# Altium footprint library Circulators.PcbLib: 11 footprints
Each footprint in its own frame and in the unit in brackets; x right, y up, seen from the top. Pads: shape width x height; smd on the part's side, far side on the other; paste and mask are expansions set on the pad; w line width, h text height; cw(c..) or ccw(c..) is an arc to the next point about the centre after c.
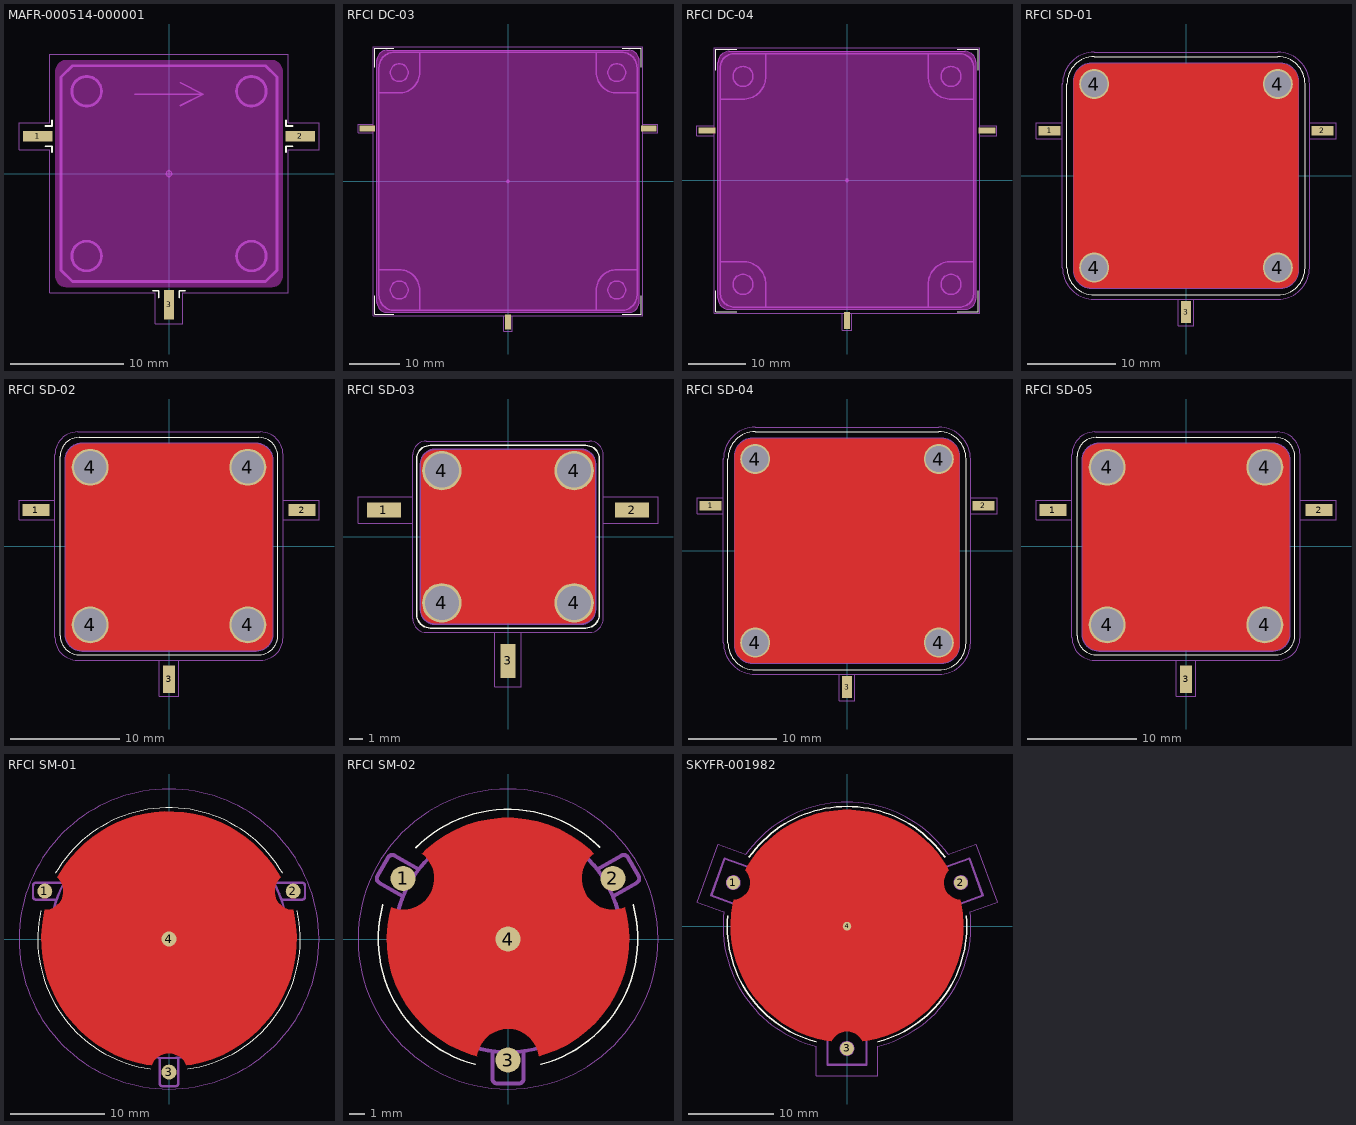
[diagram p0: the footprints below, top view; thin cyan lines are the x and y axes]

## MAFR-000514-000001 [mm] "19X19X7.6 Skyworks Drop-In Circulator"
height 7.6
pads (3):
  rect 2.6x0.9 smd: 1(-11.55,3.3) 2(11.55,3.3)
  rect 0.9x2.6 smd: 3(0,-11.55)
Top Overlay:
  lines w0.15: -10.9,2.4 -10.3,2.4 -10.3,1.9 ; -10.9,4.2 -10.3,4.2 -10.3,4.7 ; -1.4,-10.3 -0.9,-10.3 -0.9,-10.9 ; 0.9,-10.9 0.9,-10.3 1.4,-10.3 ; 10.3,1.9 10.3,2.4 10.9,2.4 ; 10.3,4.7 10.3,4.2 10.9,4.2
Keep-Out Layer:
  board cut-out: -9,10 9,10 9.098,10 9.292,9.962 9.474,9.886 9.637,9.777 9.777,9.637 9.886,9.474 9.962,9.292 10,9.098 10,9 10,-9 10,-9.098 9.962,-9.292 9.886,-9.474 9.777,-9.637 9.637,-9.777 9.474,-9.886 9.292,-9.962 9.098,-10 9,-10 -9,-10 -9.098,-10 -9.292,-9.962 -9.474,-9.886 -9.637,-9.777 -9.777,-9.637 -9.886,-9.474 -9.962,-9.292 -10,-9.098 -10,-9 -10,9 -10,9.098 -9.962,9.292 -9.886,9.474 -9.777,9.637 -9.637,9.777 -9.474,9.886 -9.292,9.962 -9.098,10
Top Assembly:
  circle w0.25: c7.25,7.25 r1.3
  circle w0.25: c7.25,-7.25 r1.3
  circle w0.25: c-7.25,-7.25 r1.3
  circle w0.25: c-7.25,7.25 r1.3
  lines w0.15: -3,7 3,7 ; 1,6 3,7 ; 1,8 3,7
  lines w0.25: -9.498,-8.498 -8.498,-9.498 8.498,-9.498 9.498,-8.498 9.498,8.498 8.498,9.498 -8.498,9.498 -9.498,8.498 -9.498,-8.498
  text ".Designator" at -3.378,-0.339 h1.5
Top Courtyard:
  circle w0.05: c0,0 r0.25
  lines w0.05: -0.35,0 0.35,0 ; 0,-0.35 0,0.35 ; -13.2,2.1 -10.5,2.1 -10.5,-10.5 -1.2,-10.5 -1.2,-13.2 1.2,-13.2 1.2,-10.5 10.5,-10.5 10.5,2.1 13.2,2.1 13.2,4.5 10.5,4.5 10.5,10.5 -10.5,10.5 -10.5,4.5 -13.2,4.5 -13.2,2.1
3D body "MAFR-000514-000001.STEP": height 4.5, standoff -3.1, extent -12,-12 12,9.5

## RFCI DC-03 [mm] "RFCI DC-03 50.8mm Flange Drop-In Package"
height 8.2
pads (3):
  rect 3x1.1 smd paste-1.74: 1(-27.7,10.4) 2(27.7,10.4)
  rect 1.1x3 smd paste-1.74: 3(0,-27.7)
Top Overlay:
  lines w0.1: -26.2,-22.5 -26.2,-26.2 -22.5,-26.2 ; -26.2,22.5 -26.2,26.2 -22.5,26.2 ; 22.5,-26.2 26.2,-26.2 26.2,-22.5 ; 22.5,26.2 26.2,26.2 26.2,22.5
Keep-Out Layer:
  board cut-out: -25.8,-23.8 -25.8,23.8 -25.8,23.997 -25.723,24.383 -25.572,24.747 -25.354,25.075 -25.075,25.354 -24.747,25.572 -24.383,25.723 -23.997,25.8 -23.8,25.8 23.8,25.8 23.997,25.8 24.383,25.723 24.747,25.572 25.075,25.354 25.354,25.075 25.572,24.747 25.723,24.383 25.8,23.997 25.8,23.8 25.8,-23.8 25.8,-23.997 25.723,-24.383 25.572,-24.747 25.354,-25.075 25.075,-25.354 24.747,-25.572 24.383,-25.723 23.997,-25.8 23.8,-25.8 -23.8,-25.8 -23.997,-25.8 -24.383,-25.723 -24.747,-25.572 -25.075,-25.354 -25.354,-25.075 -25.572,-24.747 -25.723,-24.383 -25.8,-23.997
Top Assembly:
  circle w0.25: c21.4,21.4 r1.75
  circle w0.25: c21.4,-21.4 r1.75
  circle w0.25: c-21.4,-21.4 r1.75
  circle w0.25: c-21.4,21.4 r1.75
  lines w0.1: -25.8,-23.8 ccw(c-23.8,-23.8) -23.8,-25.8 23.8,-25.8 ccw(c23.8,-23.8) 25.8,-23.8 25.8,23.8 ccw(c23.8,23.8) 23.8,25.8 -23.8,25.8 ccw(c-23.8,23.8) -25.8,23.8 -25.8,-23.8
  lines w0.25: -25.4,-17.4 -21.4,-17.4 cw(c-21.4,-21.4) -17.4,-21.4 -17.4,-25.4 ; -25.4,17.4 -21.4,17.4 ccw(c-21.4,21.4) -17.4,21.4 -17.4,25.4 ; 17.4,-25.4 17.4,-21.4 cw(c21.4,-21.4) 21.4,-17.4 25.4,-17.4 ; 17.4,25.4 17.4,21.4 ccw(c21.4,21.4) 21.4,17.4 25.4,17.4 ; -25.4,-22.4 ccw(c-22.4,-22.4) -22.4,-25.4 22.4,-25.4 ccw(c22.4,-22.4) 25.4,-22.4 25.4,22.4 ccw(c22.4,22.4) 22.4,25.4 -22.4,25.4 ccw(c-22.4,22.4) -25.4,22.4 -25.4,-22.4
  text ".Designator" at -2.5,-0.4 h1.5
Top Courtyard:
  circle w0.05: c0,0 r0.25
  lines w0.05: -26.5,9.525 -29.525,9.525 -29.525,11.275 -26.5,11.275 ; -0.875,-26.5 -0.875,-29.525 0.875,-29.525 0.875,-26.5 ; -0.35,0 0.35,0 ; 0,-0.35 0,0.35 ; 26.5,9.525 29.525,9.525 29.525,11.275 26.5,11.275 ; -26.5,-26.5 26.5,-26.5 26.5,26.5 -26.5,26.5 -26.5,-26.5
3D body "CIRC DC-03.STEP": height 10.5, standoff -4.5, extent -28.4,-28.4 28.4,25.4

## RFCI DC-04 [mm] "RFCI DC-04 44.5mm Flange Drop-In Package"
height 8.2
pads (3):
  rect 3x1.1 smd paste-1.74: 1(-24.6,8.75) 2(24.6,8.75)
  rect 1.1x3 smd paste-1.74: 3(0,-24.6)
Top Overlay:
  lines w0.1: -23.05,-19.35 -23.05,-23.05 -19.35,-23.05 ; -23.05,19.35 -23.05,23.05 -19.35,23.05 ; 19.35,-23.05 23.05,-23.05 23.05,-19.35 ; 19.35,23.05 23.05,23.05 23.05,19.35
Keep-Out Layer:
  board cut-out: -22.65,-20.65 -22.65,20.65 -22.65,20.847 -22.573,21.233 -22.422,21.597 -22.204,21.925 -21.925,22.204 -21.597,22.422 -21.233,22.573 -20.847,22.65 -20.65,22.65 20.65,22.65 20.847,22.65 21.233,22.573 21.597,22.422 21.925,22.204 22.204,21.925 22.422,21.597 22.573,21.233 22.65,20.847 22.65,20.65 22.65,-20.65 22.65,-20.847 22.573,-21.233 22.422,-21.597 22.204,-21.925 21.925,-22.204 21.597,-22.422 21.233,-22.573 20.847,-22.65 20.65,-22.65 -20.65,-22.65 -20.847,-22.65 -21.233,-22.573 -21.597,-22.422 -21.925,-22.204 -22.204,-21.925 -22.422,-21.597 -22.573,-21.233 -22.65,-20.847
Top Assembly:
  circle w0.25: c-18.25,18.25 r1.75
  circle w0.25: c-18.25,-18.25 r1.75
  circle w0.25: c18.25,-18.25 r1.75
  circle w0.25: c18.25,18.25 r1.75
  lines w0.1: -22.65,-20.65 ccw(c-20.65,-20.65) -20.65,-22.65 20.65,-22.65 ccw(c20.65,-20.65) 22.65,-20.65 22.65,20.65 ccw(c20.65,20.65) 20.65,22.65 -20.65,22.65 ccw(c-20.65,20.65) -22.65,20.65 -22.65,-20.65
  lines w0.25: -22.25,-14.25 -18.25,-14.25 cw(c-18.25,-18.25) -14.25,-18.25 -14.25,-22.25 ; -22.25,14.25 -18.25,14.25 ccw(c-18.25,18.25) -14.25,18.25 -14.25,22.25 ; 14.25,-22.25 14.25,-18.25 cw(c18.25,-18.25) 18.25,-14.25 22.25,-14.25 ; 14.25,22.25 14.25,18.25 ccw(c18.25,18.25) 18.25,14.25 22.25,14.25 ; -22.25,-19.75 ccw(c-19.75,-19.75) -19.75,-22.25 19.75,-22.25 ccw(c19.75,-19.75) 22.25,-19.75 22.25,19.75 ccw(c19.75,19.75) 19.75,22.25 -19.75,22.25 ccw(c-19.75,19.75) -22.25,19.75 -22.25,-19.75
  text ".Designator" at -2.8,-0.3 h1.5
Top Courtyard:
  circle w0.05: c0,0 r0.25
  lines w0.05: -23.3,7.875 -26.325,7.875 -26.325,9.625 -23.3,9.625 ; -0.875,-23.3 -0.875,-26.325 0.875,-26.325 0.875,-23.3 ; -0.35,0 0.35,0 ; 0,-0.35 0,0.35 ; 23.3,7.875 26.325,7.875 26.325,9.625 23.3,9.625 ; -23.3,-23.3 23.3,-23.3 23.3,23.3 -23.3,23.3 -23.3,-23.3
3D body "CIRC DC-04.STEP": height 8.2, standoff -4.5, extent -25.25,-25.25 25.25,22.25

## RFCI SD-01 [mm] "RFCI SD-01 25.4mm Thread Package"
height 9
pads (7):
  rect 2.5x1.1 smd paste-1.74: 1(-15.45,5.1) 2(15.45,5.1)
  rect 1.1x2.5 smd paste-1.74: 3(0,-15.45)
  round 3.4 hole 3 paste-2539.97: 4(-10.4,-10.4) 4(-10.4,10.4) 4(10.4,-10.4) 4(10.4,10.4)
Top Layer:
  region: -10.7,-12.7 -10.897,-12.7 -11.283,-12.623 -11.647,-12.472 -11.975,-12.254 -12.254,-11.975 -12.472,-11.647 -12.623,-11.283 -12.7,-10.897 -12.7,-10.7 -12.7,10.7 -12.7,10.897 -12.623,11.283 -12.472,11.647 -12.254,11.975 -11.975,12.254 -11.647,12.472 -11.283,12.623 -10.897,12.7 -10.7,12.7 10.7,12.7 10.897,12.7 11.283,12.623 11.647,12.472 11.975,12.254 12.254,11.975 12.472,11.647 12.623,11.283 12.7,10.897 12.7,10.7 12.7,-10.7 12.7,-10.897 12.623,-11.283 12.472,-11.647 12.254,-11.975 11.975,-12.254 11.647,-12.472 11.283,-12.623 10.897,-12.7 10.7,-12.7
Top Overlay:
  lines w0.1: 13.5,10.4 ccw(c10.4,10.4) 10.4,13.5 -10.4,13.5 ccw(c-10.4,10.4) -13.5,10.4 -13.5,-10.4 ccw(c-10.4,-10.4) -10.4,-13.5 10.4,-13.5 ccw(c10.4,-10.4) 13.5,-10.4 13.5,10.5
Top Assembly:
  circle w0.25: c10.4,-10.4 r1.5
  circle w0.25: c-10.4,-10.4 r1.5
  circle w0.25: c-10.4,10.4 r1.5
  circle w0.25: c10.4,10.4 r1.5
  lines w0.25: -12.7,-10.7 ccw(c-10.7,-10.7) -10.7,-12.7 10.7,-12.7 ccw(c10.7,-10.7) 12.7,-10.7 12.7,10.7 ccw(c10.7,10.7) 10.7,12.7 -10.7,12.7 ccw(c-10.7,10.7) -12.7,10.7 -12.7,-10.7
  text ".Designator" at -2.8,-0.2 h1.5
Top Courtyard:
  circle w0.05: c0,0 r0.25
  lines w0.05: -14,4.2 -17,4.2 -17,6 -14,6 ; -0.9,-14 -0.9,-17 0.9,-17 0.9,-14 ; -0.35,0 0.35,0 ; 0,-0.35 0,0.35 ; 14,4.2 17,4.2 17,6 14,6 ; -14,-10.4 ccw(c-10.4,-10.4) -10.4,-14 10.4,-14 ccw(c10.4,-10.4) 14,-10.4 14,10.4 ccw(c10.4,10.4) 10.4,14 -10.4,14 ccw(c-10.4,10.4) -14,10.4 -14,-10.4
3D body "CIRC SD-01.STEP": height 9, standoff 0, extent -15.7,-15.7 15.7,12.7

## RFCI SD-02 [mm] "RFCI SD-02 19mm Thread Package"
height 8
pads (7):
  rect 2.5x1.1 smd paste-1.74: 1(-12.25,3.3) 2(12.25,3.3)
  rect 1.1x2.5 smd paste-1.74: 3(0,-12.25)
  round 3.4 hole 3 paste-2539.97: 4(-7.25,-7.25) 4(-7.25,7.25) 4(7.25,-7.25) 4(7.25,7.25)
Top Layer:
  region: -9.5,-8.1 -9.5,7.9 -9.5,8.048 -9.442,8.338 -9.329,8.611 -9.165,8.856 -8.956,9.065 -8.711,9.229 -8.438,9.342 -8.148,9.4 -8,9.4 8,9.4 8.148,9.4 8.438,9.342 8.71,9.229 8.956,9.065 9.165,8.856 9.329,8.611 9.442,8.338 9.5,8.048 9.5,7.9 9.5,-8.1 9.5,-8.248 9.442,-8.537 9.329,-8.81 9.165,-9.056 8.956,-9.265 8.711,-9.429 8.438,-9.542 8.148,-9.6 8,-9.6 -8,-9.6 -8.148,-9.6 -8.438,-9.542 -8.71,-9.429 -8.956,-9.265 -9.165,-9.056 -9.329,-8.81 -9.442,-8.538 -9.5,-8.248
Top Overlay:
  lines w0.1: -10,-8.25 ccw(c-8.25,-8.25) -8.25,-10 8.25,-10 ccw(c8.25,-8.25) 10,-8.25 10,8.25 ccw(c8.25,8.25) 8.25,10 -8.25,10 ccw(c-8.25,8.25) -10,8.25 -10,-8.25
Top Assembly:
  circle w0.25: c-7.25,-7.25 r1.5
  circle w0.25: c-7.25,7.25 r1.5
  circle w0.25: c7.25,-7.25 r1.5
  circle w0.25: c7.25,7.25 r1.5
  lines w0.25: -9.5,-8.1 ccw(c-8,-8.1) -8,-9.6 8,-9.6 ccw(c8,-8.1) 9.5,-8.1 9.5,7.9 ccw(c8,7.9) 8,9.4 -8,9.4 ccw(c-8,7.9) -9.5,7.9 -9.5,-8.1
  text ".Designator" at -2.9,-0.3 h1.5
Top Courtyard:
  circle w0.05: c0,0 r0.25
  lines w0.05: -10.5,2.4 -13.8,2.4 -13.8,4.2 -10.5,4.2 ; -0.9,-10.5 -0.9,-13.8 0.9,-13.8 0.9,-10.5 ; -0.35,0 0.35,0 ; 0,-0.35 0,0.35 ; 10.5,2.4 13.8,2.4 13.8,4.2 10.5,4.2 ; -10.5,-8.4 ccw(c-8.4,-8.4) -8.4,-10.5 8.4,-10.5 ccw(c8.4,-8.4) 10.5,-8.4 10.5,8.4 ccw(c8.4,8.4) 8.4,10.5 -8.4,10.5 ccw(c-8.4,8.4) -10.5,8.4 -10.5,-8.4
3D body "CIRC SD-02.STEP": height 8, standoff 0, extent -12.5,-12.5 12.5,9.5

## RFCI SD-03 [mm] "RFCI SD-03 12.7mm Thread Package"
height 8.5
pads (7):
  rect 2.5x1.1 smd paste-1.74: 1(-9.1,1.95) 2(9.1,1.95)
  rect 1.1x2.5 smd paste-1.74: 3(0,-9.1)
  round 2.9 hole 2.5 paste-2539.97: 4(-4.85,-4.85) 4(-4.85,4.85) 4(4.85,-4.85) 4(4.85,4.85)
Top Layer:
  region: -6.35,-5.35 -6.35,5.35 -6.35,5.448 -6.312,5.642 -6.236,5.824 -6.127,5.987 -5.987,6.127 -5.824,6.236 -5.642,6.312 -5.448,6.35 -5.35,6.35 5.35,6.35 5.448,6.35 5.642,6.312 5.824,6.236 5.987,6.127 6.127,5.987 6.236,5.824 6.312,5.642 6.35,5.448 6.35,5.35 6.35,-5.35 6.35,-5.448 6.312,-5.642 6.236,-5.824 6.127,-5.987 5.987,-6.127 5.824,-6.236 5.642,-6.312 5.448,-6.35 5.35,-6.35 -5.35,-6.35 -5.448,-6.35 -5.642,-6.312 -5.824,-6.236 -5.987,-6.127 -6.127,-5.987 -6.236,-5.824 -6.312,-5.642 -6.35,-5.448
Top Overlay:
  lines w0.1: -6.7,-5.7 ccw(c-5.7,-5.7) -5.7,-6.7 5.7,-6.7 ccw(c5.7,-5.7) 6.7,-5.7 6.7,5.7 ccw(c5.7,5.7) 5.7,6.7 -5.7,6.7 ccw(c-5.7,5.7) -6.7,5.7 -6.7,-5.7
Top Assembly:
  circle w0.25: c4.85,4.85 r1
  circle w0.25: c-4.85,4.85 r1
  circle w0.25: c-4.85,-4.85 r1
  circle w0.25: c4.85,-4.85 r1
  lines w0.25: -6.35,-5.35 ccw(c-5.35,-5.35) -5.35,-6.35 5.35,-6.35 ccw(c5.35,-5.35) 6.35,-5.35 6.35,5.35 ccw(c5.35,5.35) 5.35,6.35 -5.35,6.35 ccw(c-5.35,5.35) -6.35,5.35 -6.35,-5.35
  text ".Designator" at -2.9,-0.3 h1.5
Top Courtyard:
  circle w0.05: c0,0 r0.25
  lines w0.05: -7,0.975 -11,0.975 -11,2.925 -7,2.925 ; -0.975,-7 -0.975,-11 0.975,-11 0.975,-7 ; -0.35,0 0.35,0 ; 0,-0.35 0,0.35 ; 7,0.975 11,0.975 11,2.925 7,2.925 ; -7,-6 ccw(c-6,-6) -6,-7 6,-7 ccw(c6,-6) 7,-6 7,6 ccw(c6,6) 6,7 -6,7 ccw(c-6,6) -7,6 -7,-6
3D body "CIRC SD-03.STEP": height 8.5, standoff 0, extent -9.35,-9.35 9.35,6.35

## RFCI SD-04 [mm] "RFCI SD-04 25.4mm GW-C' Bore Thru Holes Package"
height 9
pads (7):
  rect 2.5x1.1 smd paste-1.74: 1(-15.45,5.1) 2(15.45,5.1)
  rect 1.1x2.5 smd paste-1.74: 3(0,-15.45)
  round 3.4 hole 3 paste-2539.97: 4(-10.4,-10.4) 4(-10.4,10.4) 4(10.4,-10.4) 4(10.4,10.4)
Top Layer:
  region: -10.7,-12.7 -10.897,-12.7 -11.283,-12.623 -11.647,-12.472 -11.975,-12.254 -12.254,-11.975 -12.472,-11.647 -12.623,-11.283 -12.7,-10.897 -12.7,-10.7 -12.7,10.7 -12.7,10.897 -12.623,11.283 -12.472,11.647 -12.254,11.975 -11.975,12.254 -11.647,12.472 -11.283,12.623 -10.897,12.7 -10.7,12.7 10.7,12.7 10.897,12.7 11.283,12.623 11.647,12.472 11.975,12.254 12.254,11.975 12.472,11.647 12.623,11.283 12.7,10.897 12.7,10.7 12.7,-10.7 12.7,-10.897 12.623,-11.283 12.472,-11.647 12.254,-11.975 11.975,-12.254 11.647,-12.472 11.283,-12.623 10.897,-12.7 10.7,-12.7
Top Overlay:
  lines w0.1: 13.5,10.4 ccw(c10.4,10.4) 10.4,13.5 -10.4,13.5 ccw(c-10.4,10.4) -13.5,10.4 -13.5,-10.4 ccw(c-10.4,-10.4) -10.4,-13.5 10.4,-13.5 ccw(c10.4,-10.4) 13.5,-10.4 13.5,10.5
Top Assembly:
  circle w0.25: c10.4,10.4 r1.5
  circle w0.25: c-10.4,10.4 r1.5
  circle w0.25: c-10.4,-10.4 r1.5
  circle w0.25: c10.4,-10.4 r1.5
  lines w0.25: -12.7,-7.7 -10.4,-7.7 cw(c-10.4,-10.4) -7.7,-10.4 -7.7,-12.7 ; -12.7,7.7 -10.4,7.7 ccw(c-10.4,10.4) -7.7,10.4 -7.7,12.7 ; 7.7,-12.7 7.7,-10.4 cw(c10.4,-10.4) 10.4,-7.7 12.7,-7.7 ; 7.7,12.7 7.7,10.4 ccw(c10.4,10.4) 10.4,7.7 12.7,7.7 ; -12.7,-10.7 ccw(c-10.7,-10.7) -10.7,-12.7 10.7,-12.7 ccw(c10.7,-10.7) 12.7,-10.7 12.7,10.7 ccw(c10.7,10.7) 10.7,12.7 -10.7,12.7 ccw(c-10.7,10.7) -12.7,10.7 -12.7,-10.7
  text ".Designator" at -3.1,-0.4 h1.5
Top Courtyard:
  lines w0.05: -14,4.2 -17,4.2 -17,6 -14,6 ; -0.9,-14 -0.9,-17 0.9,-17 0.9,-14 ; 14,4.2 17,4.2 17,6 14,6 ; -14,-10.4 ccw(c-10.4,-10.4) -10.4,-14 10.4,-14 ccw(c10.4,-10.4) 14,-10.4 14,10.4 ccw(c10.4,10.4) 10.4,14 -10.4,14 ccw(c-10.4,10.4) -14,10.4 -14,-10.4
3D body "CIRC SD-04.STEP": height 9, standoff 0, extent -15.7,-15.7 15.7,12.7

## RFCI SD-05 [mm] "RFCI SD-05 19mm GW-C' Bore Thru Holes Package"
height 6.5
pads (7):
  rect 2.5x1.1 smd paste-1.74: 1(-12.25,3.3) 2(12.25,3.3)
  rect 1.1x2.5 smd paste-1.74: 3(0,-12.25)
  round 3.4 hole 3 paste-2539.97: 4(-7.25,-7.25) 4(-7.25,7.25) 4(7.25,-7.25) 4(7.25,7.25)
Top Layer:
  region: -9.5,-8.1 -9.5,7.9 -9.5,8.048 -9.442,8.338 -9.329,8.611 -9.165,8.856 -8.956,9.065 -8.711,9.229 -8.438,9.342 -8.148,9.4 -8,9.4 8,9.4 8.148,9.4 8.438,9.342 8.71,9.229 8.956,9.065 9.165,8.856 9.329,8.611 9.442,8.338 9.5,8.048 9.5,7.9 9.5,-8.1 9.5,-8.248 9.442,-8.537 9.329,-8.81 9.165,-9.056 8.956,-9.265 8.711,-9.429 8.438,-9.542 8.148,-9.6 8,-9.6 -8,-9.6 -8.148,-9.6 -8.438,-9.542 -8.71,-9.429 -8.956,-9.265 -9.165,-9.056 -9.329,-8.81 -9.442,-8.538 -9.5,-8.248
Top Overlay:
  lines w0.1: -10,-8.25 ccw(c-8.25,-8.25) -8.25,-10 8.25,-10 ccw(c8.25,-8.25) 10,-8.25 10,8.25 ccw(c8.25,8.25) 8.25,10 -8.25,10 ccw(c-8.25,8.25) -10,8.25 -10,-8.25
Top Assembly:
  circle w0.25: c7.25,7.25 r1.5
  circle w0.25: c7.25,-7.25 r1.5
  circle w0.25: c-7.25,7.25 r1.5
  circle w0.25: c-7.25,-7.25 r1.5
  lines w0.25: -9.5,-8.1 ccw(c-8,-8.1) -8,-9.6 8,-9.6 ccw(c8,-8.1) 9.5,-8.1 9.5,7.9 ccw(c8,7.9) 8,9.4 -8,9.4 ccw(c-8,7.9) -9.5,7.9 -9.5,-8.1
  text ".Designator" at -2.9,-0.3 h1.5
Top Courtyard:
  circle w0.05: c0,0 r0.25
  lines w0.05: -10.5,2.4 -13.8,2.4 -13.8,4.2 -10.5,4.2 ; -0.9,-10.5 -0.9,-13.8 0.9,-13.8 0.9,-10.5 ; -0.35,0 0.35,0 ; 0,-0.35 0,0.35 ; 10.5,2.4 13.8,2.4 13.8,4.2 10.5,4.2 ; -10.5,-8.4 ccw(c-8.4,-8.4) -8.4,-10.5 8.4,-10.5 ccw(c8.4,-8.4) 10.5,-8.4 10.5,8.4 ccw(c8.4,8.4) 8.4,10.5 -8.4,10.5 ccw(c-8.4,8.4) -10.5,8.4 -10.5,-8.4
3D body "CIRC SD-05.STEP": height 6.5, standoff 0, extent -12.5,-12.5 12.5,9.5

## RFCI SM-01 [mm] "RFCI SM-01 25.4mm Diameter Package"
height 8.5
pads (4):
  round 1.6 smd paste-1.74: 1(-13.25,5.1) 2(13.25,5.1) 3(0,-14.2) 4(0,0)
Top Layer:
  region: -1.863,-13.472 -2.424,-13.394 -3.528,-13.147 -4.608,-12.808 -5.656,-12.381 -6.665,-11.868 -7.628,-11.274 -8.538,-10.601 -9.389,-9.855 -10.176,-9.041 -10.891,-8.164 -11.532,-7.231 -12.093,-6.248 -12.57,-5.222 -12.96,-4.16 -13.261,-3.069 -13.47,-1.957 -13.586,-0.831 -13.608,0.301 -13.536,1.43 -13.371,2.549 -13.242,3.1 -13.24,3.1 -13.041,3.111 -12.65,3.192 -12.283,3.349 -11.955,3.576 -11.678,3.864 -11.464,4.2 -11.321,4.573 -11.254,4.966 -11.268,5.365 -11.36,5.753 -11.527,6.115 -11.763,6.437 -11.904,6.579 -11.902,6.581 -11.651,7.035 -11.082,7.9 -10.449,8.72 -9.755,9.49 -9.005,10.204 -8.203,10.86 -7.353,11.452 -6.461,11.979 -5.531,12.435 -4.569,12.82 -3.581,13.13 -2.572,13.365 -1.548,13.522 -0.515,13.6 0.521,13.6 1.554,13.521 2.578,13.363 3.587,13.129 4.575,12.818 5.537,12.433 6.467,11.975 7.359,11.449 8.208,10.856 9.01,10.2 9.76,9.485 10.453,8.715 11.086,7.895 11.654,7.029 11.905,6.576 11.903,6.578 11.762,6.436 11.526,6.114 11.359,5.752 11.267,5.364 11.255,4.965 11.321,4.572 11.464,4.2 11.678,3.863 11.955,3.576 12.283,3.349 12.65,3.192 13.041,3.111 13.24,3.1 13.242,3.1 13.371,2.549 13.536,1.43 13.608,0.3 13.586,-0.831 13.47,-1.957 13.261,-3.07 12.96,-4.161 12.57,-5.223 12.092,-6.249 11.531,-7.233 10.891,-8.166 10.174,-9.042 9.388,-9.856 8.537,-10.602 7.626,-11.275 6.663,-11.869 5.654,-12.382 4.606,-12.809 3.526,-13.147 2.421,-13.395 1.861,-13.472 1.86,-13.464 1.777,-13.282 1.56,-12.948 1.281,-12.664 0.951,-12.441 0.584,-12.287 0.193,-12.209 -0.205,-12.211 -0.595,-12.291 -0.962,-12.446 -1.29,-12.672 -1.567,-12.957 -1.782,-13.293 -1.864,-13.475
Top Overlay:
  lines w0.1: -13.676,2.995 ccw(c0,0) -2.022,-13.853 ; -12.118,7.011 cw(c0,0) 12.118,7.011 ; 2.022,-13.853 ccw(c0,0) 13.676,2.995
Top Assembly:
  circle w0.25: c0,0 r12.7
  lines w0.25: -12,4.2 -14.2,4.2 cw(c-14.2,4.5) -14.5,4.5 -14.5,5.7 cw(c-14.2,5.7) -14.2,6 -11.2,6 ; -1,-12.7 -1,-15.4 ccw(c-0.7,-15.4) -0.7,-15.7 0.7,-15.7 ccw(c0.7,-15.4) 1,-15.4 1,-12.7 ; 11.2,6 14.2,6 cw(c14.2,5.7) 14.5,5.7 14.5,4.5 cw(c14.2,4.5) 14.2,4.2 12,4.2
  text ".Designator" at -2.7,-0.2 h1.5
Top Courtyard:
  circle w0.05: c0,0 r16
  circle w0.05: c0,0 r0.25
  lines w0.05: -0.35,0 0.35,0 ; 0,-0.35 0,0.35
3D body "CIRC SM-01.STEP": height 8.5, standoff 0, extent -14.5,-15.7 14.5,12.7

## RFCI SM-02 [mm] "RFCI SM-02 14.5mm Diameter Package"
height 7
pads (4):
  round 1.6 smd paste-1.74: 1(-6.712,3.875) 2(6.712,3.875) 3(0,-7.75) 4(0,0)
Top Layer:
  region: -1.982,-7.492 -2.351,-7.395 -3.067,-7.128 -3.753,-6.791 -4.403,-6.389 -5.01,-5.925 -5.568,-5.404 -6.073,-4.83 -6.518,-4.21 -6.901,-3.548 -7.216,-2.853 -7.462,-2.129 -7.635,-1.385 -7.734,-0.627 -7.758,0.136 -7.707,0.898 -7.582,1.652 -7.482,2.021 -7.457,2.019 -7.287,1.96 -6.936,1.888 -6.577,1.88 -6.222,1.936 -5.883,2.055 -5.571,2.232 -5.296,2.462 -5.066,2.738 -4.89,3.05 -4.772,3.389 -4.716,3.744 -4.725,4.103 -4.797,4.454 -4.932,4.787 -5.124,5.091 -5.366,5.355 -5.505,5.47 -5.497,5.463 -5.228,5.734 -4.639,6.22 -4.005,6.646 -3.332,7.008 -2.627,7.301 -1.896,7.524 -1.147,7.674 -0.387,7.75 0.377,7.75 1.138,7.676 1.887,7.526 2.618,7.304 3.324,7.012 3.997,6.651 4.632,6.225 5.221,5.74 5.491,5.469 5.477,5.448 5.341,5.331 5.102,5.063 4.916,4.756 4.788,4.421 4.721,4.068 4.719,3.709 4.78,3.355 4.904,3.019 5.087,2.709 5.321,2.438 5.6,2.212 5.915,2.04 6.256,1.928 6.612,1.877 6.97,1.892 7.321,1.97 7.489,2.032 7.479,2.03 7.58,1.661 7.706,0.908 7.758,0.145 7.735,-0.618 7.636,-1.376 7.464,-2.12 7.219,-2.844 6.905,-3.54 6.523,-4.202 6.078,-4.823 5.575,-5.397 5.017,-5.919 4.41,-6.384 3.761,-6.787 3.076,-7.124 2.36,-7.392 1.991,-7.49 1.98,-7.467 1.947,-7.291 1.833,-6.95 1.661,-6.635 1.435,-6.356 1.162,-6.123 0.853,-5.941 0.516,-5.818 0.162,-5.757 -0.197,-5.76 -0.549,-5.827 -0.884,-5.956 -1.191,-6.143 -1.459,-6.382 -1.68,-6.665 -1.847,-6.982 -1.954,-7.325 -1.985,-7.502
Top Overlay:
  lines w0.1: -8.003,2.201 ccw(c0,0) -2.107,-8.028 ; -5.899,5.839 cw(c0,0) 5.869,5.869 ; 2.107,-8.028 ccw(c0,0) 8.003,2.201
Top Assembly:
  circle w0.25: c0,0 r7.25
  lines w0.25: -6.735,2.734 -8.251,3.609 cw(c-8.101,3.869) -8.361,4.019 -7.661,5.231 cw(c-7.401,5.081) -7.251,5.341 -5.735,4.466 ; -1,-7.2 -1,-8.95 ccw(c-0.7,-8.95) -0.7,-9.25 0.7,-9.25 ccw(c0.7,-8.95) 1,-8.95 1,-7.2 ; 5.735,4.466 7.251,5.341 cw(c7.401,5.081) 7.661,5.231 8.361,4.019 cw(c8.101,3.869) 8.251,3.609 6.735,2.734
  text ".Designator" at -2.8,-0.4 h1.5
Top Courtyard:
  circle w0.05: c0,0 r0.25
  circle w0.05: c0,0 r9.601
  lines w0.05: -0.35,0 0.35,0 ; 0,-0.35 0,0.35
3D body "CIRC SM-02.STEP": height 7, standoff 0, extent -8.58,-9.169 8.58,7.25

## SKYFR-001982 [mm] "SKYFR-001982 Circulator"
height 10.5
pads (4):
  round 1.6 smd: 1(-13.3,5.1) 2(13.3,5.1) 3(0,-14.3)
  round 1 smd paste-0.5 mask-0.5: 4(0,0)
Top Layer:
  region: -1.823,-13.477 -2.385,-13.401 -3.492,-13.156 -4.575,-12.82 -5.626,-12.395 -6.638,-11.884 -7.604,-11.29 -8.517,-10.618 -9.371,-9.873 -10.16,-9.058 -10.879,-8.181 -11.522,-7.248 -12.085,-6.264 -12.564,-5.236 -12.957,-4.172 -13.259,-3.08 -13.469,-1.966 -13.586,-0.838 -13.609,0.296 -13.537,1.427 -13.371,2.549 -13.242,3.101 -13.047,3.116 -12.665,3.203 -12.308,3.363 -11.989,3.59 -11.72,3.874 -11.512,4.205 -11.372,4.57 -11.305,4.956 -11.315,5.347 -11.401,5.728 -11.56,6.086 -11.785,6.406 -11.92,6.548 -11.67,7.003 -11.102,7.872 -10.47,8.696 -9.776,9.469 -9.026,10.187 -8.223,10.845 -7.372,11.44 -6.478,11.969 -5.547,12.428 -4.583,12.815 -3.592,13.127 -2.581,13.363 -1.555,13.521 -0.519,13.6 0.519,13.6 1.555,13.521 2.581,13.363 3.592,13.127 4.583,12.815 5.547,12.428 6.478,11.969 7.372,11.44 8.223,10.845 9.026,10.187 9.776,9.469 10.47,8.696 11.102,7.872 11.67,7.003 11.92,6.548 11.785,6.406 11.56,6.086 11.401,5.728 11.315,5.347 11.305,4.956 11.372,4.57 11.512,4.205 11.72,3.874 11.989,3.59 12.308,3.363 12.665,3.203 13.047,3.116 13.242,3.101 13.371,2.549 13.537,1.427 13.609,0.296 13.586,-0.838 13.469,-1.966 13.259,-3.08 12.957,-4.172 12.564,-5.236 12.085,-6.264 11.522,-7.248 10.879,-8.181 10.16,-9.058 9.371,-9.873 8.517,-10.618 7.604,-11.29 6.638,-11.884 5.626,-12.395 4.575,-12.82 3.492,-13.156 2.385,-13.401 1.823,-13.477 1.736,-13.307 1.516,-12.995 1.24,-12.731 0.92,-12.524 0.566,-12.382 0.191,-12.309 -0.191,-12.309 -0.566,-12.382 -0.92,-12.524 -1.24,-12.731 -1.516,-12.995 -1.736,-13.307
Top Overlay:
  lines w0.15: -13.947,1.22 ccw(c0,0) -3.623,-13.523 ; -11.468,8.03 cw(c0,0) 11.468,8.03 ; 3.623,-13.523 ccw(c0,0) 13.947,1.22
Top Paste:
  drawing of 14 lines, arcs and shapes, not listed
Top Solder:
  drawing of 14 lines, arcs and shapes, not listed
Top Assembly:
  circle w0.25: c0,-14.3 r0.75
  circle w0.25: c13.3,5.1 r0.75
  circle w0.25: c-13.3,5.1 r0.75
  circle w0.25: c0,0 r11.75
  lines w0.25: -11.571,2.023 -15.872,3.589 -14.299,7.911 -9.904,6.311 ; -5,5 5,5 ; -2.3,-11.523 -2.3,-16.2 2.3,-16.2 2.3,-11.522 ; 3,4 5,5 ; 3,6 5,5 ; 9.904,6.311 14.299,7.911 15.872,3.589 11.571,2.023
  text ".Designator" at -4,-0.718 h1.5
Top Courtyard:
  circle w0.05: c0,0 r0.25
  lines w0.05: -0.35,0 0.35,0 ; 0,-0.35 0,0.35 ; -17.538,2.812 -14.404,1.671 ccw(c0,0) -3.6,-14.046 -3.6,-17.5 3.6,-17.5 3.6,-14.046 ccw(c0,0) 14.403,1.671 17.538,2.812 15.076,9.577 11.823,8.394 ccw(c0,0) -11.824,8.394 -15.076,9.577 -17.538,2.812
3D body "SKYFR-001982.STEP": height 10.5, standoff 0, extent -15.658,-16.2 15.654,11.935